# Altium footprint library Tranzistor.PcbLib: 241 footprints (part 15 of 16)
Each footprint in its own frame and in the unit in brackets; x right, y up, seen from the top. Pads: shape width x height; smd on the part's side, far side on the other; paste and mask are expansions set on the pad; w line width, h text height; cw(c..) or ccw(c..) is an arc to the next point about the centre after c.
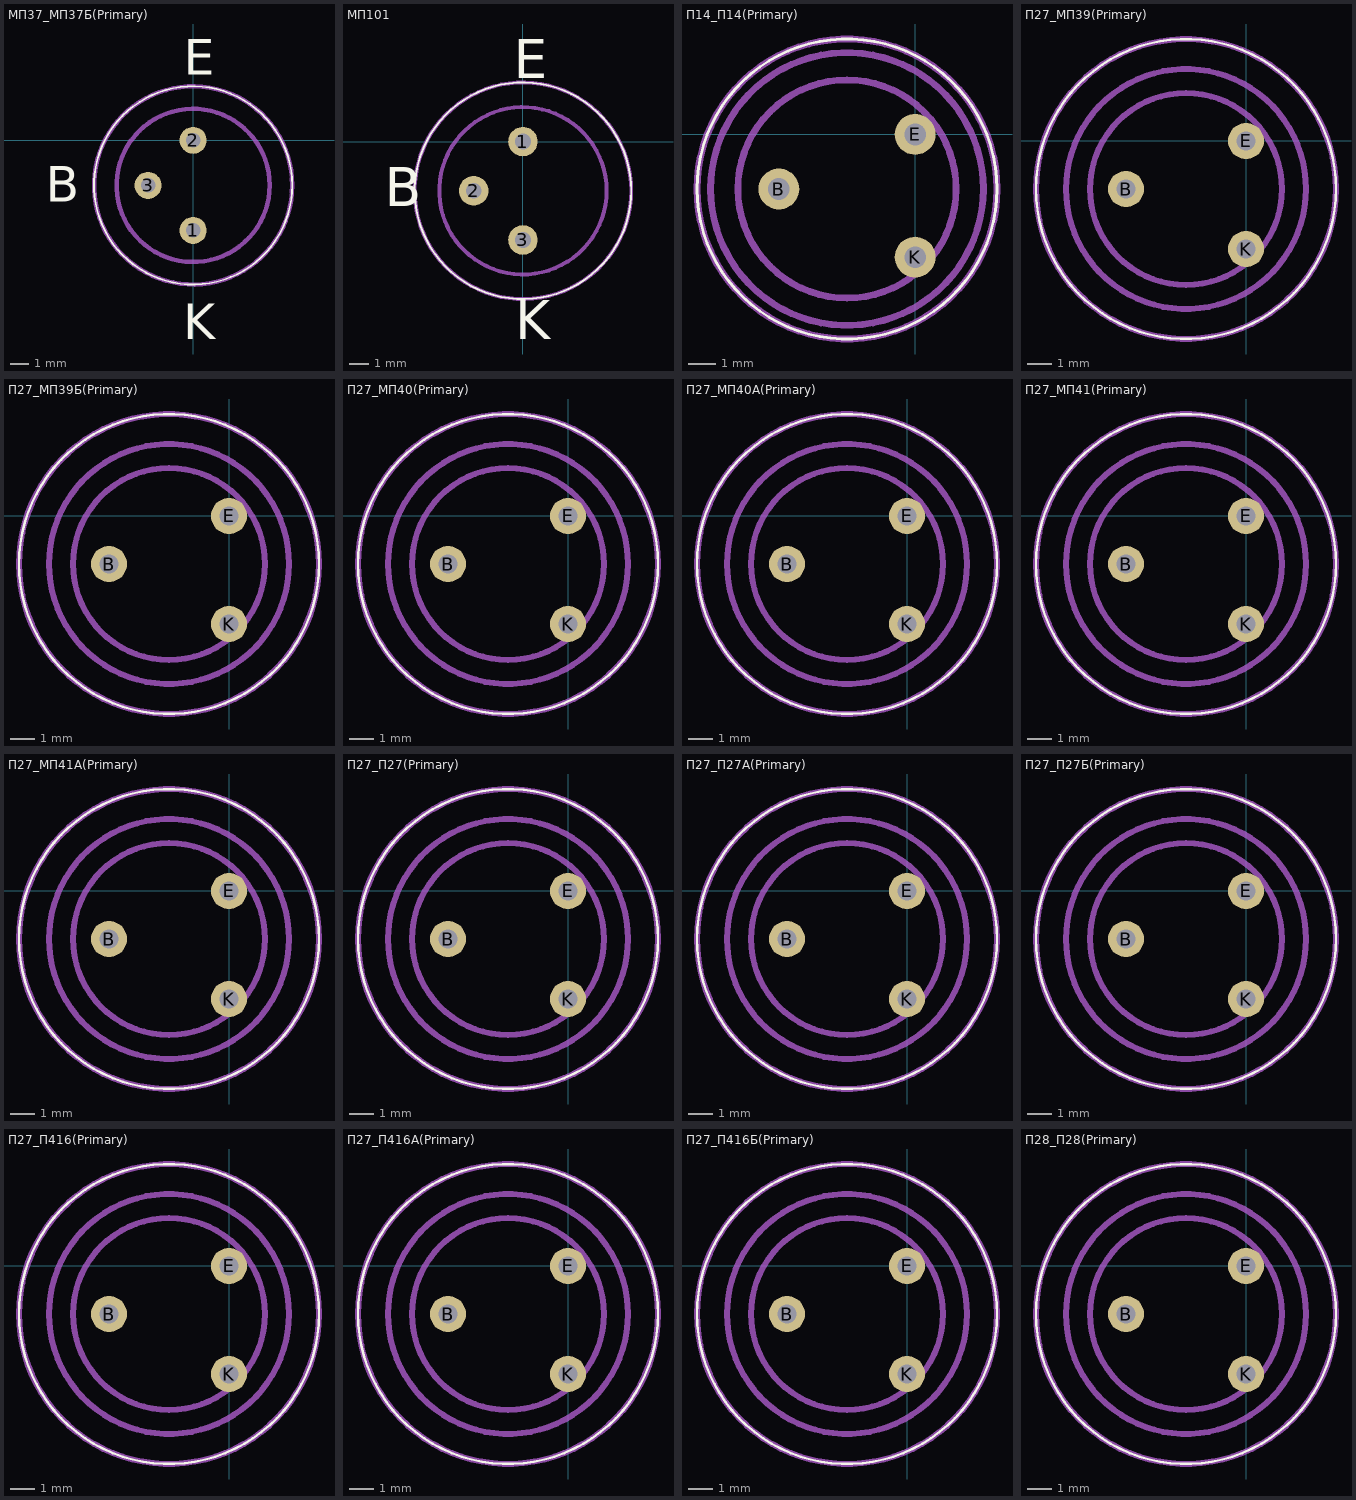
[diagram p14: the footprints below, top view; thin cyan lines are the x and y axes]

## МП37_МП37Б(Primary) [mm]
pads (3):
  round 1.5 hole 0.8: 1(0,-5) 2(0,0) 3(-2.5,-2.5)
Top Overlay:
  circle w0.1: c0,-2.5 r5.5
  text "E" at -0.517,3.638 h1.98
  text "K" at -0.558,-11.023 h1.98
  text "B" at -8.178,-3.403 h1.98
Mechanical 1:
  circle w0.25: c0,-2.5 r4.25
  circle w0.25: c0,-2.5 r5.5
  text "E" at -0.517,3.638 h1.98
  text "K" at -0.558,-11.023 h1.98
  text "B" at -8.178,-3.403 h1.98

## МП101 [mm]
pads (3):
  round 1.5 hole 0.8: 1(0,0) 2(-2.5,-2.5) 3(0,-5)
Top Overlay:
  circle w0.1: c0,-2.5 r5.5
  text "E" at -0.477,3.223 h1.98
  text "K" at -0.393,-10.028 h1.98
  text "B" at -7.018,-3.277 h1.98
Mechanical 1:
  circle w0.2: c0,-2.5 r4.25
  circle w0.2: c0,-2.5 r5.5
  text "E" at -0.477,3.223 h1.98
  text "K" at -0.393,-10.028 h1.98
  text "B" at -7.018,-3.277 h1.98

## П14_П14(Primary) [mm]
pads (3):
  round 1.5 hole 0.8: B(-5,-2) E(0,0) K(0,-4.5)
Top Overlay:
  lines w0.1: -8,-2 cw(c-2.5,-2) 3,-2 cw(c-2.5,-2) -8,-2
Mechanical 1:
  lines w0.25: -8,-2 ccw(c-2.5,-2) 3,-2 ccw(c-2.5,-2) -8,-2 ; -7.5,-2 cw(c-2.5,-2) 2.5,-2 cw(c-2.5,-2) -7.5,-2 ; -6.5,-2 cw(c-2.5,-2) 1.5,-2 cw(c-2.5,-2) -6.5,-2
  text "Э" at -2.25,-0.75 h1.5
  text "K" at -2,-5.25 h1.5
  text "Б" at -4,-2.75 h1.5

## П27_МП39(Primary) [mm]
pads (3):
  round 1.5 hole 0.8: B(-5,-2) E(0,0) K(0,-4.5)
Top Overlay:
  lines w0.1: -8.75,-2 cw(c-2.5,-2) 3.75,-2 cw(c-2.5,-2) -8.75,-2
Mechanical 1:
  lines w0.25: -8.75,-2 cw(c-2.5,-2) 3.75,-2 cw(c-2.5,-2) -8.75,-2 ; -7.5,-2 cw(c-2.5,-2) 2.5,-2 cw(c-2.5,-2) -7.5,-2 ; -6.5,-2 cw(c-2.5,-2) 1.5,-2 cw(c-2.5,-2) -6.5,-2
  text "Э" at -2.25,-0.75 h1.5
  text "K" at -2,-5.25 h1.5
  text "Б" at -4,-2.75 h1.5

## П27_МП39Б(Primary) [mm]
pads (3):
  round 1.5 hole 0.8: B(-5,-2) E(0,0) K(0,-4.5)
Top Overlay:
  lines w0.1: -8.75,-2 cw(c-2.5,-2) 3.75,-2 cw(c-2.5,-2) -8.75,-2
Mechanical 1:
  lines w0.25: -8.75,-2 cw(c-2.5,-2) 3.75,-2 cw(c-2.5,-2) -8.75,-2 ; -7.5,-2 cw(c-2.5,-2) 2.5,-2 cw(c-2.5,-2) -7.5,-2 ; -6.5,-2 cw(c-2.5,-2) 1.5,-2 cw(c-2.5,-2) -6.5,-2
  text "Э" at -2.25,-0.75 h1.5
  text "K" at -2,-5.25 h1.5
  text "Б" at -4,-2.75 h1.5

## П27_МП40(Primary) [mm]
pads (3):
  round 1.5 hole 0.8: B(-5,-2) E(0,0) K(0,-4.5)
Top Overlay:
  lines w0.1: -8.75,-2 cw(c-2.5,-2) 3.75,-2 cw(c-2.5,-2) -8.75,-2
Mechanical 1:
  lines w0.25: -8.75,-2 cw(c-2.5,-2) 3.75,-2 cw(c-2.5,-2) -8.75,-2 ; -7.5,-2 cw(c-2.5,-2) 2.5,-2 cw(c-2.5,-2) -7.5,-2 ; -6.5,-2 cw(c-2.5,-2) 1.5,-2 cw(c-2.5,-2) -6.5,-2
  text "Э" at -2.25,-0.75 h1.5
  text "K" at -2,-5.25 h1.5
  text "Б" at -4,-2.75 h1.5

## П27_МП40А(Primary) [mm]
pads (3):
  round 1.5 hole 0.8: B(-5,-2) E(0,0) K(0,-4.5)
Top Overlay:
  lines w0.1: -8.75,-2 cw(c-2.5,-2) 3.75,-2 cw(c-2.5,-2) -8.75,-2
Mechanical 1:
  lines w0.25: -8.75,-2 cw(c-2.5,-2) 3.75,-2 cw(c-2.5,-2) -8.75,-2 ; -7.5,-2 cw(c-2.5,-2) 2.5,-2 cw(c-2.5,-2) -7.5,-2 ; -6.5,-2 cw(c-2.5,-2) 1.5,-2 cw(c-2.5,-2) -6.5,-2
  text "Э" at -2.25,-0.75 h1.5
  text "K" at -2,-5.25 h1.5
  text "Б" at -4,-2.75 h1.5

## П27_МП41(Primary) [mm]
pads (3):
  round 1.5 hole 0.8: B(-5,-2) E(0,0) K(0,-4.5)
Top Overlay:
  lines w0.1: -8.75,-2 cw(c-2.5,-2) 3.75,-2 cw(c-2.5,-2) -8.75,-2
Mechanical 1:
  lines w0.25: -8.75,-2 cw(c-2.5,-2) 3.75,-2 cw(c-2.5,-2) -8.75,-2 ; -7.5,-2 cw(c-2.5,-2) 2.5,-2 cw(c-2.5,-2) -7.5,-2 ; -6.5,-2 cw(c-2.5,-2) 1.5,-2 cw(c-2.5,-2) -6.5,-2
  text "Э" at -2.25,-0.75 h1.5
  text "K" at -2,-5.25 h1.5
  text "Б" at -4,-2.75 h1.5

## П27_МП41А(Primary) [mm]
pads (3):
  round 1.5 hole 0.8: B(-5,-2) E(0,0) K(0,-4.5)
Top Overlay:
  lines w0.1: -8.75,-2 cw(c-2.5,-2) 3.75,-2 cw(c-2.5,-2) -8.75,-2
Mechanical 1:
  lines w0.25: -8.75,-2 cw(c-2.5,-2) 3.75,-2 cw(c-2.5,-2) -8.75,-2 ; -7.5,-2 cw(c-2.5,-2) 2.5,-2 cw(c-2.5,-2) -7.5,-2 ; -6.5,-2 cw(c-2.5,-2) 1.5,-2 cw(c-2.5,-2) -6.5,-2
  text "Э" at -2.25,-0.75 h1.5
  text "K" at -2,-5.25 h1.5
  text "Б" at -4,-2.75 h1.5

## П27_П27(Primary) [mm]
pads (3):
  round 1.5 hole 0.8: B(-5,-2) E(0,0) K(0,-4.5)
Top Overlay:
  lines w0.1: -8.75,-2 cw(c-2.5,-2) 3.75,-2 cw(c-2.5,-2) -8.75,-2
Mechanical 1:
  lines w0.25: -8.75,-2 cw(c-2.5,-2) 3.75,-2 cw(c-2.5,-2) -8.75,-2 ; -7.5,-2 cw(c-2.5,-2) 2.5,-2 cw(c-2.5,-2) -7.5,-2 ; -6.5,-2 cw(c-2.5,-2) 1.5,-2 cw(c-2.5,-2) -6.5,-2
  text "Э" at -2.25,-0.75 h1.5
  text "K" at -2,-5.25 h1.5
  text "Б" at -4,-2.75 h1.5

## П27_П27А(Primary) [mm]
pads (3):
  round 1.5 hole 0.8: B(-5,-2) E(0,0) K(0,-4.5)
Top Overlay:
  lines w0.1: -8.75,-2 cw(c-2.5,-2) 3.75,-2 cw(c-2.5,-2) -8.75,-2
Mechanical 1:
  lines w0.25: -8.75,-2 cw(c-2.5,-2) 3.75,-2 cw(c-2.5,-2) -8.75,-2 ; -7.5,-2 cw(c-2.5,-2) 2.5,-2 cw(c-2.5,-2) -7.5,-2 ; -6.5,-2 cw(c-2.5,-2) 1.5,-2 cw(c-2.5,-2) -6.5,-2
  text "Э" at -2.25,-0.75 h1.5
  text "K" at -2,-5.25 h1.5
  text "Б" at -4,-2.75 h1.5

## П27_П27Б(Primary) [mm]
pads (3):
  round 1.5 hole 0.8: B(-5,-2) E(0,0) K(0,-4.5)
Top Overlay:
  lines w0.1: -8.75,-2 cw(c-2.5,-2) 3.75,-2 cw(c-2.5,-2) -8.75,-2
Mechanical 1:
  lines w0.25: -8.75,-2 cw(c-2.5,-2) 3.75,-2 cw(c-2.5,-2) -8.75,-2 ; -7.5,-2 cw(c-2.5,-2) 2.5,-2 cw(c-2.5,-2) -7.5,-2 ; -6.5,-2 cw(c-2.5,-2) 1.5,-2 cw(c-2.5,-2) -6.5,-2
  text "Э" at -2.25,-0.75 h1.5
  text "K" at -2,-5.25 h1.5
  text "Б" at -4,-2.75 h1.5

## П27_П416(Primary) [mm]
pads (3):
  round 1.5 hole 0.8: B(-5,-2) E(0,0) K(0,-4.5)
Top Overlay:
  lines w0.1: -8.75,-2 cw(c-2.5,-2) 3.75,-2 cw(c-2.5,-2) -8.75,-2
Mechanical 1:
  lines w0.25: -8.75,-2 cw(c-2.5,-2) 3.75,-2 cw(c-2.5,-2) -8.75,-2 ; -7.5,-2 cw(c-2.5,-2) 2.5,-2 cw(c-2.5,-2) -7.5,-2 ; -6.5,-2 cw(c-2.5,-2) 1.5,-2 cw(c-2.5,-2) -6.5,-2
  text "Э" at -2.25,-0.75 h1.5
  text "K" at -2,-5.25 h1.5
  text "Б" at -4,-2.75 h1.5

## П27_П416А(Primary) [mm]
pads (3):
  round 1.5 hole 0.8: B(-5,-2) E(0,0) K(0,-4.5)
Top Overlay:
  lines w0.1: -8.75,-2 cw(c-2.5,-2) 3.75,-2 cw(c-2.5,-2) -8.75,-2
Mechanical 1:
  lines w0.25: -8.75,-2 cw(c-2.5,-2) 3.75,-2 cw(c-2.5,-2) -8.75,-2 ; -7.5,-2 cw(c-2.5,-2) 2.5,-2 cw(c-2.5,-2) -7.5,-2 ; -6.5,-2 cw(c-2.5,-2) 1.5,-2 cw(c-2.5,-2) -6.5,-2
  text "Э" at -2.25,-0.75 h1.5
  text "K" at -2,-5.25 h1.5
  text "Б" at -4,-2.75 h1.5

## П27_П416Б(Primary) [mm]
pads (3):
  round 1.5 hole 0.8: B(-5,-2) E(0,0) K(0,-4.5)
Top Overlay:
  lines w0.1: -8.75,-2 cw(c-2.5,-2) 3.75,-2 cw(c-2.5,-2) -8.75,-2
Mechanical 1:
  lines w0.25: -8.75,-2 cw(c-2.5,-2) 3.75,-2 cw(c-2.5,-2) -8.75,-2 ; -7.5,-2 cw(c-2.5,-2) 2.5,-2 cw(c-2.5,-2) -7.5,-2 ; -6.5,-2 cw(c-2.5,-2) 1.5,-2 cw(c-2.5,-2) -6.5,-2
  text "Э" at -2.25,-0.75 h1.5
  text "K" at -2,-5.25 h1.5
  text "Б" at -4,-2.75 h1.5

## П28_П28(Primary) [mm]
pads (3):
  round 1.5 hole 0.8: B(-5,-2) E(0,0) K(0,-4.5)
Top Overlay:
  lines w0.1: -8.75,-2 cw(c-2.5,-2) 3.75,-2 cw(c-2.5,-2) -8.75,-2
Mechanical 1:
  lines w0.25: -8.75,-2 cw(c-2.5,-2) 3.75,-2 cw(c-2.5,-2) -8.75,-2 ; -7.5,-2 cw(c-2.5,-2) 2.5,-2 cw(c-2.5,-2) -7.5,-2 ; -6.5,-2 cw(c-2.5,-2) 1.5,-2 cw(c-2.5,-2) -6.5,-2
  text "Э" at -2.25,-0.75 h1.5
  text "K" at -2,-5.25 h1.5
  text "Б" at -4,-2.75 h1.5